# Altium schematic symbol library pporyzala-TI_Lighting.SchLib: 745 symbols (part 25 of 48)
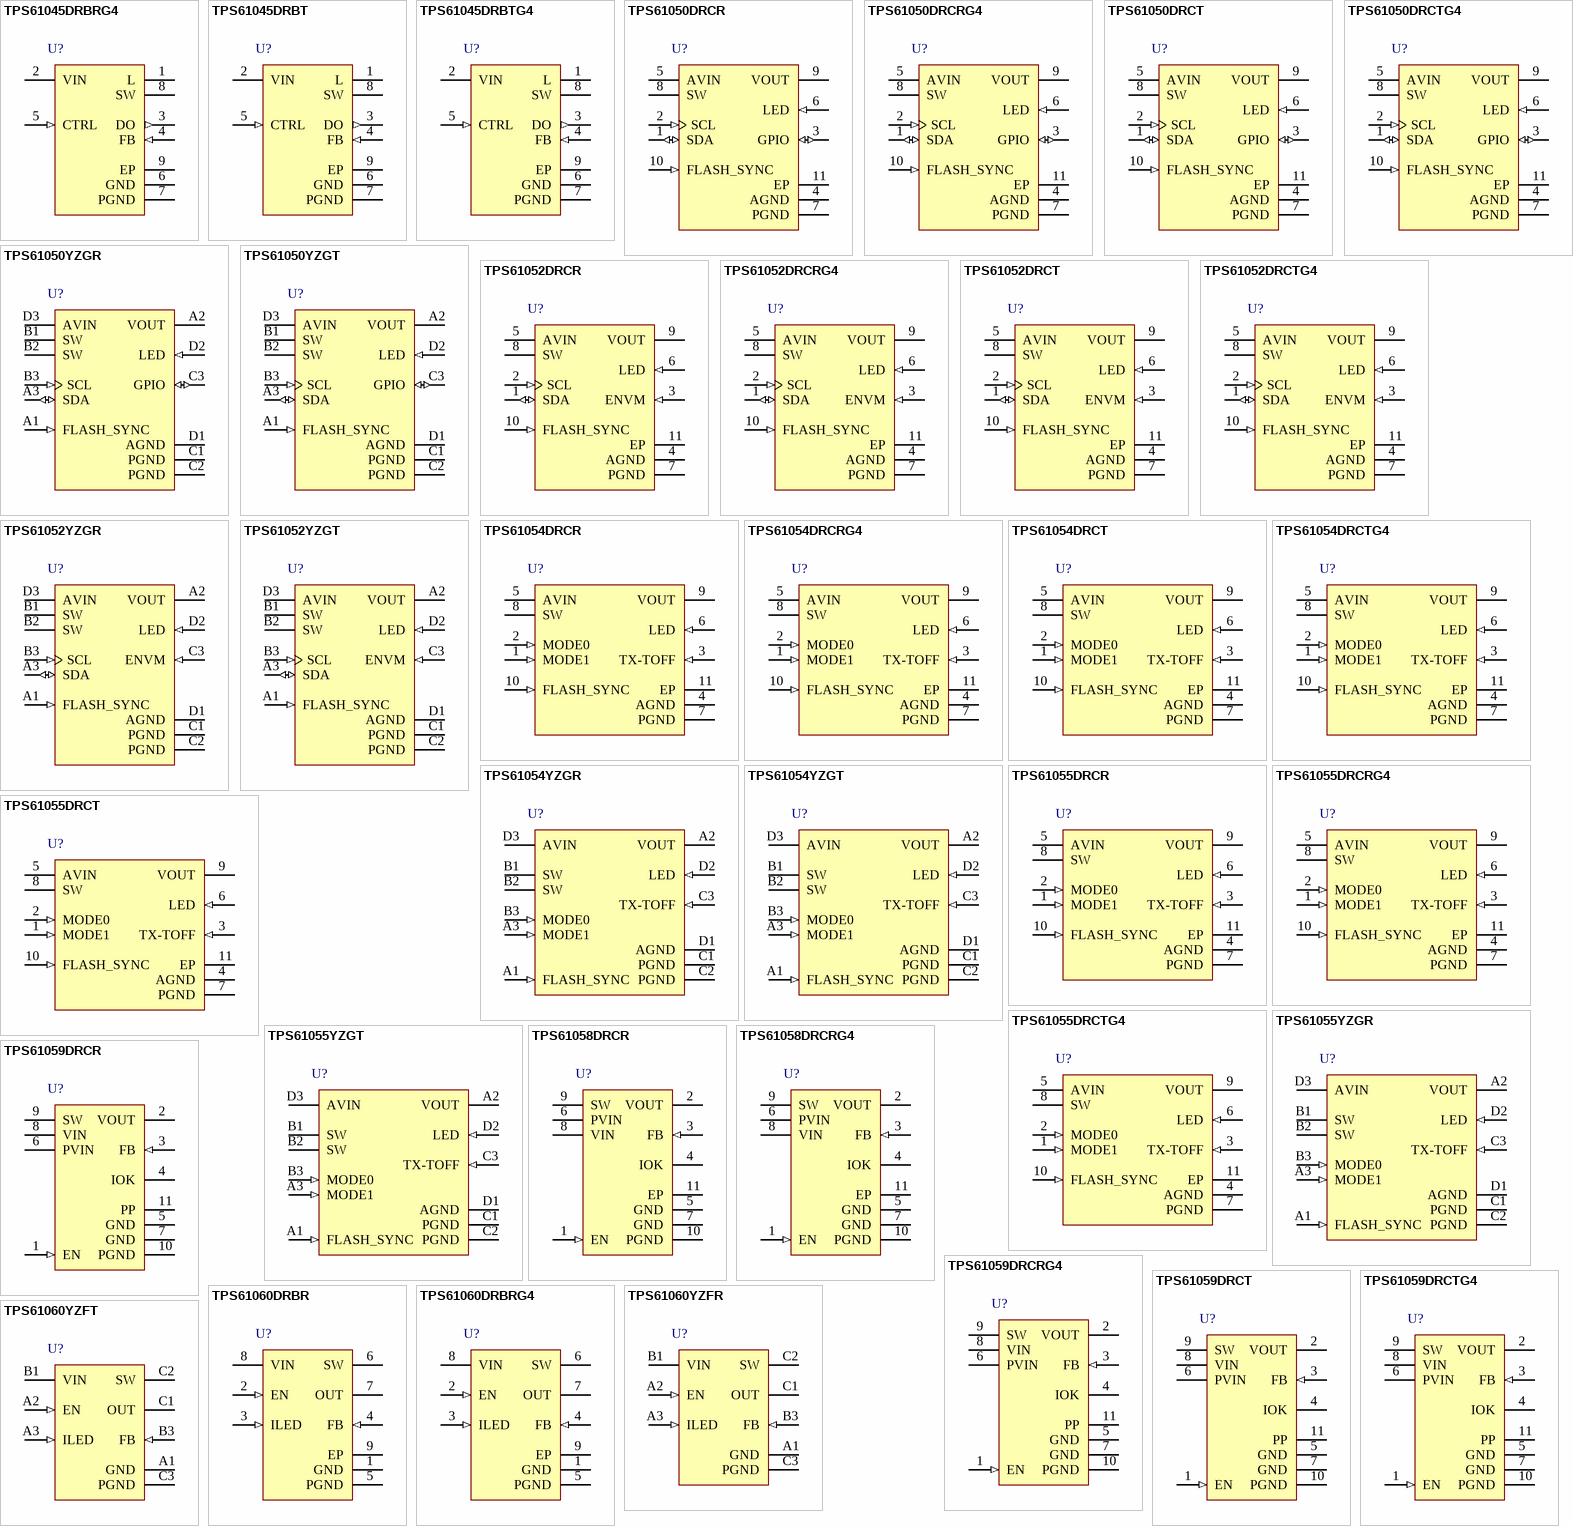
[diagram p55: symbols TPS61045DRBRG4 to TPS61060YZFT]

## TPS61055YZGT
designator U?
500 mA High Power White LED Driver with Standard Logic Interface, 2.5 to 6 V, -40 to 85 degC, 12-pin BGA (YZG12), Green (RoHS & no Sb/Br); Manufacturer: Texas Instruments; PartNumber: TPS61055YZGT; Dimming: TRUE; Iout(Max)(A): 1.2; Iq(Typ)(mA): 8.5; Rating: Catalog; Switching Frequency(Max)(kHz): 2000; Topology: Boost; Vin(Max)(V): 6; Vin(Min)(V): 2.5; DatasheetVersion: SLUS760A; PackageVersion: 4205059/D; PackageReference: YZG12; PackageDescription: 12-Ball, Silicon Grid Array, Body Size 1.96 x 1.46 mm, Pitch 0.5 mm; Supplier 1: Digi-Key; Supplier Part Number 1: TPS61055YZGT-ND; Supplier 2: Newark; Supplier Part Number 2: 03P5216; Supplier 3: Mouser; Supplier Part Number 3: 595-TPS61055YZGT; Eco-Plan: Green (RoHS & no Sb/Br); SubFamily: White LED Driver; Mounting Technology: Surface Mount; ComponentLink1Description: Manufacturer URL; ComponentLink1URL: http://www.ti.com/; ComponentLink2Description: Datasheet; ComponentLink2URL: http://www.ti.com/general/docs/lit/getliterature.tsp?genericPartNumber=TPS61055&fileType=pdf; ComponentLink3Description: Package Specification; ComponentLink3URL: http://www.ti.com/lit/ds/symlink/tps61054.pdf
footprint TI-YZG12-1960X1460DE (BGA, 12-Balls, Body 1.96x1.46mm, Pitch 0.5mm)
pins: A1 FLASH_SYNC (in) "Flash strobe pulse synchronization input. FLASH_SYNC = LOW (GND): The device is operating and regulating the LED current to the torch current level (TC). FLASH_SYNC = HIGH (VIN): The device is operating and regulating the (See Datasheet)", A2 VOUT (power) "Boost converter output.", A3 MODE1 (in) "Mode selection inputs. These pins must not be left floating and must be terminated. MODE0 = 0, MODE1 = 0: Device in shutdown mode MODE0 = 1, MODE1 = 0: Device in torch only mode MODE0 = 0, MODE1 = 1: Device in torch and (See Datasheet)", B1 SW (power) "Inductor connection. Drain of the internal power MOSFET. Connect to the switched side of the inductor. SW is high impedance during shutdown.", B2 SW (power) "Inductor connection. Drain of the internal power MOSFET. Connect to the switched side of the inductor. SW is high impedance during shutdown.", B3 MODE0 (in) "Mode selection inputs. These pins must not be left floating and must be terminated. MODE0 = 0, MODE1 = 0: Device in shutdown mode MODE0 = 1, MODE1 = 0: Device in torch only mode MODE0 = 0, MODE1 = 1: Device in torch and (See Datasheet)", C1 PGND (power) "Power ground. Connect to AGND underneath IC.", C2 PGND (power) "Power ground. Connect to AGND underneath IC.", C3 TX-TOFF (in) "RF PA synchronization input. Tx-TOFF = LOW : The device is operating normally. Tx-TOFF = HIGH : The device is forced into torch mode.", D1 AGND (power) "Analog ground.", D2 LED (in) "LED return input. This feedback pin regulates the LED current through the internal sense resistor by regulating the voltage across it. The regulation operates with typically 250 mV dropout voltage. Connect to the cathode of (See Datasheet)", D3 AVIN (power) "This is the input voltage pin of the device. Connect directly to the input bypass capacitor."

## TPS61058DRCR
designator U?
High Power Single Cell White LED Driver with 1.1 A Switch, 2.7 to 5.5 V, -40 to 85 degC, 10-pin SON (DRC10), Green (RoHS & no Sb/Br); Manufacturer: Texas Instruments; PartNumber: TPS61058DRCR; Iout(Max)(A): 0.5; Iq(Typ)(mA): 5.5; Rating: Catalog; Switching Frequency(Max)(kHz): 650; Synchronous Rectification: TRUE; Topology: Boost; Vin(Min)(V): 2.7; DatasheetVersion: SLVS572B; PackageVersion: 4204102-3/L; PackageReference: DRC10-2400X1650TP; PackageDescription: 10-Pin Plastic Small Outline, Body 3 x 3 mm, Pitch 0.5 mm; Supplier 1: Digi-Key; Supplier Part Number 1: 296-18728-2-ND; Supplier 2: Digi-Key; Supplier Part Number 2: 296-18728-1-ND; Supplier 3: Digi-Key; Supplier Part Number 3: 296-18728-6-ND; Supplier 4: Newark; Supplier Part Number 4: 66K4531; Supplier 5: Mouser; Supplier Part Number 5: 595-TPS61058DRCR; Eco-Plan: Green (RoHS & no Sb/Br); SubFamily: White LED Driver; Vin(Max)(V): 5.5; Mounting Technology: Surface Mount; ComponentLink1Description: Manufacturer URL; ComponentLink1URL: http://www.ti.com/; ComponentLink2Description: Datasheet; ComponentLink2URL: http://www.ti.com/general/docs/lit/getliterature.tsp?genericPartNumber=TPS61058&fileType=pdf; ComponentLink3Description: Package Specification; ComponentLink3URL: http://www.ti.com/litv/pdf/mpds117k
footprint TI-DRC10-2400X1650TP_V (SON, 10-Leads, Body 3x3mm, Pitch 0.5mm, Thermal Pad 3x1.65mm)
pins: 1 EN (in) "This is the enable pin of the device. Connect this pin to ground forces the device into shutdown mode. Pulling this pin above 1.4V enables the device. This pin has an internal pull-down resistor.", 2 VOUT (power) "This is the output of the dc-dc converter.", 3 FB (in) "This is the feedback pin of the device. The feedback pin measures the LED current through the sense resistor. The feedback voltage is set internally to 500mV.", 4 IOK (hiz) "This pin indicates that the dc-dc converter is ready for high current operation (open drain output).", 5 GND (power) "Control / logic ground.", 6 PVIN (power) "This is the input voltage pin of the device. Connect directly to the input bypass capacitor.", 7 GND (power) "Control / logic ground.", 8 VIN (power) "This pin needs to be tied to the input voltage pin of the device.", 9 SW (power) "This is the switching pin of the converter.", 10 PGND (power) "Power ground.", 11 EP (power) "Must be soldered to achieve appropriate power dissipation. Should be connected to PGND."

## TPS61058DRCRG4
designator U?
High Power Single Cell White LED Driver with 1.1 A Switch, 2.7 to 5.5 V, -40 to 85 degC, 10-pin SON (DRC10), Green (RoHS & no Sb/Br); Manufacturer: Texas Instruments; PartNumber: TPS61058DRCRG4; Iout(Max)(A): 0.5; Iq(Typ)(mA): 5.5; Rating: Catalog; Switching Frequency(Max)(kHz): 650; Synchronous Rectification: TRUE; Topology: Boost; Vin(Min)(V): 2.7; DatasheetVersion: SLVS572B; PackageVersion: 4204102-3/L; PackageReference: DRC10-2400X1650TP; PackageDescription: 10-Pin Plastic Small Outline, Body 3 x 3 mm, Pitch 0.5 mm; Supplier 1: Digi-Key; Supplier Part Number 1: TPS61058DRCRG4-ND; Supplier 2: Mouser; Supplier Part Number 2: 595-TPS61058DRCRG4; Eco-Plan: Green (RoHS & no Sb/Br); SubFamily: White LED Driver; Vin(Max)(V): 5.5; Mounting Technology: Surface Mount; ComponentLink1Description: Manufacturer URL; ComponentLink1URL: http://www.ti.com/; ComponentLink2Description: Datasheet; ComponentLink2URL: http://www.ti.com/general/docs/lit/getliterature.tsp?genericPartNumber=TPS61058&fileType=pdf; ComponentLink3Description: Package Specification; ComponentLink3URL: http://www.ti.com/litv/pdf/mpds117k
footprint TI-DRC10-2400X1650TP_V (SON, 10-Leads, Body 3x3mm, Pitch 0.5mm, Thermal Pad 3x1.65mm)
pins: 1 EN (in) "This is the enable pin of the device. Connect this pin to ground forces the device into shutdown mode. Pulling this pin above 1.4V enables the device. This pin has an internal pull-down resistor.", 2 VOUT (power) "This is the output of the dc-dc converter.", 3 FB (in) "This is the feedback pin of the device. The feedback pin measures the LED current through the sense resistor. The feedback voltage is set internally to 500mV.", 4 IOK (hiz) "This pin indicates that the dc-dc converter is ready for high current operation (open drain output).", 5 GND (power) "Control / logic ground.", 6 PVIN (power) "This is the input voltage pin of the device. Connect directly to the input bypass capacitor.", 7 GND (power) "Control / logic ground.", 8 VIN (power) "This pin needs to be tied to the input voltage pin of the device.", 9 SW (power) "This is the switching pin of the converter.", 10 PGND (power) "Power ground.", 11 EP (power) "Must be soldered to achieve appropriate power dissipation. Should be connected to PGND."

## TPS61059DRCR
designator U?
High Power Single Cell White LED Driver with 1.5 A Switch, 2.7 to 5.5 V, -40 to 85 degC, 10-pin SON (DRC10), Green (RoHS & no Sb/Br); Manufacturer: Texas Instruments; PartNumber: TPS61059DRCR; Iout(Max)(A): 0.8; Iq(Typ)(mA): 5.5; Rating: Catalog; Switching Frequency(Max)(kHz): 650; Synchronous Rectification: TRUE; Topology: Boost; Vin(Min)(V): 2.7; DatasheetVersion: SLVS572B; PackageVersion: 4204102-3/L; PackageReference: DRC10-2400X1650TP; PackageDescription: 10-Pin Plastic Small Outline, Body 3 x 3 mm, Pitch 0.5 mm; Supplier 1: Digi-Key; Supplier Part Number 1: TPS61059DRCR-ND; Supplier 2: Mouser; Supplier Part Number 2: 595-TPS61059DRCR; Eco-Plan: Green (RoHS & no Sb/Br); SubFamily: White LED Driver; Vin(Max)(V): 5.5; Mounting Technology: Surface Mount; ComponentLink1Description: Manufacturer URL; ComponentLink1URL: http://www.ti.com/; ComponentLink2Description: Datasheet; ComponentLink2URL: http://www.ti.com/general/docs/lit/getliterature.tsp?genericPartNumber=TPS61059&fileType=pdf; ComponentLink3Description: Package Specification; ComponentLink3URL: http://www.ti.com/litv/pdf/mpds117k
footprint TI-DRC10-2400X1650TP_V (SON, 10-Leads, Body 3x3mm, Pitch 0.5mm, Thermal Pad 3x1.65mm)
pins: 1 EN (in) "This is the enable pin of the device. Connect this pin to ground forces the device into shutdown mode. Pulling this pin above 1.4V enables the device. This pin has an internal pull-down resistor", 2 VOUT (power) "This is the output of the dc-dc converter.", 3 FB (in) "This is the feedback pin of the device. The feedback pin measures the LED current through the sense resistor. The feedback voltage is set internally to 500mV", 4 IOK (hiz) "This pin indicates that the dc-dc converter is ready for high current operation (open drain output).", 5 GND (power) "Control / logic ground.", 6 PVIN (power) "This is the input voltage pin of the device. Connect directly to the input bypass capacitor", 7 GND (power) "Control / logic ground.", 8 VIN (power) "This pin needs to be tied to the input voltage pin of the device.", 9 SW (power) "This is the switching pin of the converter.", 10 PGND (power) "Power ground.", 11 PP (power) "Must be soldered to achieve appropriate power dissipation. Should be connected to PGND."

## TPS61059DRCRG4
designator U?
High Power Single Cell White LED Driver with 1.5 A Switch, 2.7 to 5.5 V, -40 to 85 degC, 10-pin SON (DRC10), Green (RoHS & no Sb/Br); Manufacturer: Texas Instruments; PartNumber: TPS61059DRCRG4; Iout(Max)(A): 0.8; Iq(Typ)(mA): 5.5; Rating: Catalog; Switching Frequency(Max)(kHz): 650; Synchronous Rectification: TRUE; Topology: Boost; Vin(Min)(V): 2.7; DatasheetVersion: SLVS572B; PackageVersion: 4204102-3/L; PackageReference: DRC10-2400X1650TP; PackageDescription: 10-Pin Plastic Small Outline, Body 3 x 3 mm, Pitch 0.5 mm; Supplier 1: Digi-Key; Supplier Part Number 1: TPS61059DRCRG4-ND; Supplier 2: Mouser; Supplier Part Number 2: 595-TPS61059DRCRG4; Eco-Plan: Green (RoHS & no Sb/Br); SubFamily: White LED Driver; Vin(Max)(V): 5.5; Mounting Technology: Surface Mount; ComponentLink1Description: Manufacturer URL; ComponentLink1URL: http://www.ti.com/; ComponentLink2Description: Datasheet; ComponentLink2URL: http://www.ti.com/general/docs/lit/getliterature.tsp?genericPartNumber=TPS61059&fileType=pdf; ComponentLink3Description: Package Specification; ComponentLink3URL: http://www.ti.com/litv/pdf/mpds117k
footprint TI-DRC10-2400X1650TP_V (SON, 10-Leads, Body 3x3mm, Pitch 0.5mm, Thermal Pad 3x1.65mm)
pins: 1 EN (in) "This is the enable pin of the device. Connect this pin to ground forces the device into shutdown mode. Pulling this pin above 1.4V enables the device. This pin has an internal pull-down resistor", 2 VOUT (power) "This is the output of the dc-dc converter.", 3 FB (in) "This is the feedback pin of the device. The feedback pin measures the LED current through the sense resistor. The feedback voltage is set internally to 500mV", 4 IOK (hiz) "This pin indicates that the dc-dc converter is ready for high current operation (open drain output).", 5 GND (power) "Control / logic ground.", 6 PVIN (power) "This is the input voltage pin of the device. Connect directly to the input bypass capacitor", 7 GND (power) "Control / logic ground.", 8 VIN (power) "This pin needs to be tied to the input voltage pin of the device.", 9 SW (power) "This is the switching pin of the converter.", 10 PGND (power) "Power ground.", 11 PP (power) "Must be soldered to achieve appropriate power dissipation. Should be connected to PGND."

## TPS61059DRCT
designator U?
High Power Single Cell White LED Driver with 1.5 A Switch, 2.7 to 5.5 V, -40 to 85 degC, 10-pin SON (DRC10), Green (RoHS & no Sb/Br); Manufacturer: Texas Instruments; PartNumber: TPS61059DRCT; Iout(Max)(A): 0.8; Iq(Typ)(mA): 5.5; Rating: Catalog; Switching Frequency(Max)(kHz): 650; Synchronous Rectification: TRUE; Topology: Boost; Vin(Min)(V): 2.7; DatasheetVersion: SLVS572B; PackageVersion: 4204102-3/L; PackageReference: DRC10-2400X1650TP; PackageDescription: 10-Pin Plastic Small Outline, Body 3 x 3 mm, Pitch 0.5 mm; Supplier 1: Digi-Key; Supplier Part Number 1: 296-19426-2-ND; Supplier 2: Digi-Key; Supplier Part Number 2: 296-19426-1-ND; Supplier 3: Digi-Key; Supplier Part Number 3: 296-19426-6-ND; Supplier 4: Newark; Supplier Part Number 4: 99R8634; Supplier 5: Newark; Supplier Part Number 5: 72K0974; Supplier 6: Mouser; Supplier Part Number 6: 595-TPS61059DRCT; Eco-Plan: Green (RoHS & no Sb/Br); SubFamily: White LED Driver; Vin(Max)(V): 5.5; Mounting Technology: Surface Mount; ComponentLink1Description: Manufacturer URL; ComponentLink1URL: http://www.ti.com/; ComponentLink2Description: Datasheet; ComponentLink2URL: http://www.ti.com/general/docs/lit/getliterature.tsp?genericPartNumber=TPS61059&fileType=pdf; ComponentLink3Description: Package Specification; ComponentLink3URL: http://www.ti.com/litv/pdf/mpds117k
footprint TI-DRC10-2400X1650TP_V (SON, 10-Leads, Body 3x3mm, Pitch 0.5mm, Thermal Pad 3x1.65mm)
pins: 1 EN (in) "This is the enable pin of the device. Connect this pin to ground forces the device into shutdown mode. Pulling this pin above 1.4V enables the device. This pin has an internal pull-down resistor", 2 VOUT (power) "This is the output of the dc-dc converter.", 3 FB (in) "This is the feedback pin of the device. The feedback pin measures the LED current through the sense resistor. The feedback voltage is set internally to 500mV", 4 IOK (hiz) "This pin indicates that the dc-dc converter is ready for high current operation (open drain output).", 5 GND (power) "Control / logic ground.", 6 PVIN (power) "This is the input voltage pin of the device. Connect directly to the input bypass capacitor", 7 GND (power) "Control / logic ground.", 8 VIN (power) "This pin needs to be tied to the input voltage pin of the device.", 9 SW (power) "This is the switching pin of the converter.", 10 PGND (power) "Power ground.", 11 PP (power) "Must be soldered to achieve appropriate power dissipation. Should be connected to PGND."

## TPS61059DRCTG4
designator U?
High Power Single Cell White LED Driver with 1.5 A Switch, 2.7 to 5.5 V, -40 to 85 degC, 10-pin SON (DRC10), Green (RoHS & no Sb/Br); Manufacturer: Texas Instruments; PartNumber: TPS61059DRCTG4; Iout(Max)(A): 0.8; Iq(Typ)(mA): 5.5; Rating: Catalog; Switching Frequency(Max)(kHz): 650; Synchronous Rectification: TRUE; Topology: Boost; Vin(Min)(V): 2.7; DatasheetVersion: SLVS572B; PackageVersion: 4204102-3/L; PackageReference: DRC10-2400X1650TP; PackageDescription: 10-Pin Plastic Small Outline, Body 3 x 3 mm, Pitch 0.5 mm; Supplier 1: Digi-Key; Supplier Part Number 1: TPS61059DRCTG4-ND; Supplier 2: Farnell; Supplier Part Number 2: 1226312; Supplier 3: Newark; Supplier Part Number 3: 73K9607; Supplier 4: Mouser; Supplier Part Number 4: 595-TPS61059DRCTG4; Eco-Plan: Green (RoHS & no Sb/Br); SubFamily: White LED Driver; Vin(Max)(V): 5.5; Mounting Technology: Surface Mount; ComponentLink1Description: Manufacturer URL; ComponentLink1URL: http://www.ti.com/; ComponentLink2Description: Datasheet; ComponentLink2URL: http://www.ti.com/general/docs/lit/getliterature.tsp?genericPartNumber=TPS61059&fileType=pdf; ComponentLink3Description: Package Specification; ComponentLink3URL: http://www.ti.com/litv/pdf/mpds117k
footprint TI-DRC10-2400X1650TP_V (SON, 10-Leads, Body 3x3mm, Pitch 0.5mm, Thermal Pad 3x1.65mm)
pins: 1 EN (in) "This is the enable pin of the device. Connect this pin to ground forces the device into shutdown mode. Pulling this pin above 1.4V enables the device. This pin has an internal pull-down resistor", 2 VOUT (power) "This is the output of the dc-dc converter.", 3 FB (in) "This is the feedback pin of the device. The feedback pin measures the LED current through the sense resistor. The feedback voltage is set internally to 500mV", 4 IOK (hiz) "This pin indicates that the dc-dc converter is ready for high current operation (open drain output).", 5 GND (power) "Control / logic ground.", 6 PVIN (power) "This is the input voltage pin of the device. Connect directly to the input bypass capacitor", 7 GND (power) "Control / logic ground.", 8 VIN (power) "This pin needs to be tied to the input voltage pin of the device.", 9 SW (power) "This is the switching pin of the converter.", 10 PGND (power) "Power ground.", 11 PP (power) "Must be soldered to achieve appropriate power dissipation. Should be connected to PGND."

## TPS61060DRBR
designator U?
15 V, 400 mA Switch, 1 MHz Boost Converter with Brightness Control for White LED Power Supplies, 2.7 to 6 V, -40 to 85 degC, 8-pin SON (DRB8), Green (RoHS & no Sb/Br); Manufacturer: Texas Instruments; PartNumber: TPS61060DRBR; Dimming: TRUE; Iout(Max)(A): 0.06; Iq(Typ)(mA): 1; Rating: Catalog; SubFamily: White LED Driver; Switching Frequency(Max)(kHz): 1200; Vin(Max)(V): 6; Vin(Min)(V): 2.7; DatasheetVersion: SLVS538A; PackageVersion: 4203482-2/K; PackageReference: DRB8-1750X1500TP; PackageDescription: 8-Pin Plastic Small Outline, Body 3 x 3 mm, Pitch 0.65 mm; Supplier 1: Digi-Key; Supplier Part Number 1: 296-17500-2-ND; Supplier 2: Digi-Key; Supplier Part Number 2: 296-17500-1-ND; Supplier 3: Digi-Key; Supplier Part Number 3: 296-17500-6-ND; Supplier 4: Newark; Supplier Part Number 4: 65J6906; Supplier 5: Mouser; Supplier Part Number 5: 595-TPS61060DRBR; Eco-Plan: Green (RoHS & no Sb/Br); Topology: Boost; Mounting Technology: Surface Mount; ComponentLink1Description: Manufacturer URL; ComponentLink1URL: http://www.ti.com/; ComponentLink2Description: Datasheet; ComponentLink2URL: http://www.ti.com/general/docs/lit/getliterature.tsp?genericPartNumber=TPS61060&fileType=pdf; ComponentLink3Description: Package Specification; ComponentLink3URL: http://www.ti.com/litv/pdf/mpds118h
footprint TI-DRB8-1750X1500TP_V (SON, 8-Leads, Body 3x3mm, Pitch 0.65mm, Thermal Pad 1.50 x 3.8mm)
pins: 1 GND (power) "Analog ground", 2 EN (in) "Enable pin. This pin needs to be pulled high to enable the device. To allow brightness control of the LEDs, a PWM signal up to 1 kHz can be applied. This pin has an internal pulldown resistor.", 3 ILED (in) "Digital brightness control input. When this pin is grounded, the digital brightness control is disabled. When this pin is connected to high, then the feedback voltage is reduced to typically 250 mV and the digital brightness (See Datasheet)", 4 FB (in) "This is the feedback pin of the device. The feedback pin regulates the LED current through the sense resistor by regulating the voltage across Rs. The feedback voltage is set by the ILED pin.ILED=GND sets the feedback (See Datasheet)", 5 PGND (power) "Power ground", 6 SW (power) "Switch pin of the device", 7 OUT (hiz) "Output of the device", 8 VIN (power) "Input supply pin of the device", 9 EP (power) "The PowerPAD (exposed thermal diepad) is only available on the DRB package. The PowerPAD needs to be connected and soldered to analog ground (GND)."

## TPS61060DRBRG4
designator U?
15 V, 400 mA Switch, 1 MHz Boost Converter with Brightness Control for White LED Power Supplies, 2.7 to 6 V, -40 to 85 degC, 8-pin SON (DRB8), Green (RoHS & no Sb/Br); Manufacturer: Texas Instruments; PartNumber: TPS61060DRBRG4; Dimming: TRUE; Iout(Max)(A): 0.06; Iq(Typ)(mA): 1; Rating: Catalog; SubFamily: White LED Driver; Switching Frequency(Max)(kHz): 1200; Vin(Max)(V): 6; Vin(Min)(V): 2.7; DatasheetVersion: SLVS538A; PackageVersion: 4203482-2/K; PackageReference: DRB8-1750X1500TP; PackageDescription: 8-Pin Plastic Small Outline, Body 3 x 3 mm, Pitch 0.65 mm; Supplier 1: Digi-Key; Supplier Part Number 1: TPS61060DRBRG4-ND; Supplier 2: Newark; Supplier Part Number 2: 24K6024; Supplier 3: Mouser; Supplier Part Number 3: 595-TPS61060DRBRG4; Eco-Plan: Green (RoHS & no Sb/Br); Topology: Boost; Mounting Technology: Surface Mount; ComponentLink1Description: Manufacturer URL; ComponentLink1URL: http://www.ti.com/; ComponentLink2Description: Datasheet; ComponentLink2URL: http://www.ti.com/general/docs/lit/getliterature.tsp?genericPartNumber=TPS61060&fileType=pdf; ComponentLink3Description: Package Specification; ComponentLink3URL: http://www.ti.com/litv/pdf/mpds118h
footprint TI-DRB8-1750X1500TP_V (SON, 8-Leads, Body 3x3mm, Pitch 0.65mm, Thermal Pad 1.50 x 3.8mm)
pins: 1 GND (power) "Analog ground", 2 EN (in) "Enable pin. This pin needs to be pulled high to enable the device. To allow brightness control of the LEDs, a PWM signal up to 1 kHz can be applied. This pin has an internal pulldown resistor.", 3 ILED (in) "Digital brightness control input. When this pin is grounded, the digital brightness control is disabled. When this pin is connected to high, then the feedback voltage is reduced to typically 250 mV and the digital brightness (See Datasheet)", 4 FB (in) "This is the feedback pin of the device. The feedback pin regulates the LED current through the sense resistor by regulating the voltage across Rs. The feedback voltage is set by the ILED pin.ILED=GND sets the feedback (See Datasheet)", 5 PGND (power) "Power ground", 6 SW (power) "Switch pin of the device", 7 OUT (hiz) "Output of the device", 8 VIN (power) "Input supply pin of the device", 9 EP (power) "The PowerPAD (exposed thermal diepad) is only available on the DRB package. The PowerPAD needs to be connected and soldered to analog ground (GND)."

## TPS61060YZFR
designator U?
15 V, 400 mA Switch, 1 MHz Boost Converter with Brightness Control for White LED Power Supplies, 2.7 to 6 V, -40 to 85 degC, 8-pin BGA (YZF8), Green (RoHS & no Sb/Br); Manufacturer: Texas Instruments; PartNumber: TPS61060YZFR; Dimming: TRUE; Iout(Max)(A): 0.06; Iq(Typ)(mA): 1; Rating: Catalog; SubFamily: White LED Driver; Switching Frequency(Max)(kHz): 1200; Vin(Max)(V): 6; Vin(Min)(V): 2.7; DatasheetVersion: SLVS538A; PackageVersion: 4205058-3/M; PackageReference: YZF8; PackageDescription: 8-Ball, Silicon Grid Array, Body Size 1.46 x 1.46 mm, Pitch 0.5 mm; Supplier 1: Digi-Key; Supplier Part Number 1: 296-19296-2-ND; Supplier 2: Digi-Key; Supplier Part Number 2: 296-19296-1-ND; Supplier 3: Newark; Supplier Part Number 3: 65J6907; Supplier 4: Mouser; Supplier Part Number 4: 595-TPS61060YZFR; Eco-Plan: Green (RoHS & no Sb/Br); Topology: Boost; Mounting Technology: Surface Mount; ComponentLink1Description: Manufacturer URL; ComponentLink1URL: http://www.ti.com/; ComponentLink2Description: Datasheet; ComponentLink2URL: http://www.ti.com/general/docs/lit/getliterature.tsp?genericPartNumber=TPS61060&fileType=pdf; ComponentLink3Description: Package Specification; ComponentLink3URL: http://www.ti.com/lit/ds/symlink/tps61060.pdf
footprint TI-YZF8-1460X1460DE (BGA, 8-Balls, Body 1.46x1.46mm, Pitch 0.5mm)
pins: A1 GND (power) "Analog ground", A2 EN (in) "Enable pin. This pin needs to be pulled high to enable the device. To allow brightness control of the LEDs, a PWM signal up to 1 kHz can be applied. This pin has an internal pulldown resistor.", A3 ILED (in) "Digital brightness control input. When this pin is grounded, the digital brightness control is disabled. When this pin is connected to high, then the feedback voltage is reduced to typically 250 mV and the digital brightness (See Datasheet)", B1 VIN (power) "Input supply pin of the device", B3 FB (in) "This is the feedback pin of the device. The feedback pin regulates the LED current through the sense resistor by regulating the voltage across Rs. The feedback voltage is set by the ILED pin. ILED=GND sets the feedback (See Datasheet)", C1 OUT (hiz) "Output of the device", C2 SW (power) "Switch pin of the device", C3 PGND (power) "Power ground"

## TPS61060YZFT
designator U?
15 V, 400 mA Switch, 1 MHz Boost Converter with Brightness Control for White LED Power Supplies, 2.7 to 6 V, -40 to 85 degC, 8-pin BGA (YZF8), Green (RoHS & no Sb/Br); Manufacturer: Texas Instruments; PartNumber: TPS61060YZFT; Dimming: TRUE; Iout(Max)(A): 0.06; Iq(Typ)(mA): 1; Rating: Catalog; SubFamily: White LED Driver; Switching Frequency(Max)(kHz): 1200; Vin(Max)(V): 6; Vin(Min)(V): 2.7; DatasheetVersion: SLVS538A; PackageVersion: 4205058-3/M; PackageReference: YZF8; PackageDescription: 8-Ball, Silicon Grid Array, Body Size 1.46 x 1.46 mm, Pitch 0.5 mm; Supplier 1: Digi-Key; Supplier Part Number 1: 296-17745-2-ND; Supplier 2: Digi-Key; Supplier Part Number 2: 296-17745-1-ND; Supplier 3: Farnell; Supplier Part Number 3: 1755587; Supplier 4: Farnell; Supplier Part Number 4: 1755587RL; Supplier 5: Newark; Supplier Part Number 5: 65J6908; Supplier 6: Mouser; Supplier Part Number 6: 595-TPS61060YZFT; Eco-Plan: Green (RoHS & no Sb/Br); Topology: Boost; Mounting Technology: Surface Mount; ComponentLink1Description: Manufacturer URL; ComponentLink1URL: http://www.ti.com/; ComponentLink2Description: Datasheet; ComponentLink2URL: http://www.ti.com/general/docs/lit/getliterature.tsp?genericPartNumber=TPS61060&fileType=pdf; ComponentLink3Description: Package Specification; ComponentLink3URL: http://www.ti.com/lit/ds/symlink/tps61060.pdf
footprint TI-YZF8-1460X1460DE (BGA, 8-Balls, Body 1.46x1.46mm, Pitch 0.5mm)
pins: A1 GND (power) "Analog ground", A2 EN (in) "Enable pin. This pin needs to be pulled high to enable the device. To allow brightness control of the LEDs, a PWM signal up to 1 kHz can be applied. This pin has an internal pulldown resistor.", A3 ILED (in) "Digital brightness control input. When this pin is grounded, the digital brightness control is disabled. When this pin is connected to high, then the feedback voltage is reduced to typically 250 mV and the digital brightness (See Datasheet)", B1 VIN (power) "Input supply pin of the device", B3 FB (in) "This is the feedback pin of the device. The feedback pin regulates the LED current through the sense resistor by regulating the voltage across Rs. The feedback voltage is set by the ILED pin. ILED=GND sets the feedback (See Datasheet)", C1 OUT (hiz) "Output of the device", C2 SW (power) "Switch pin of the device", C3 PGND (power) "Power ground"

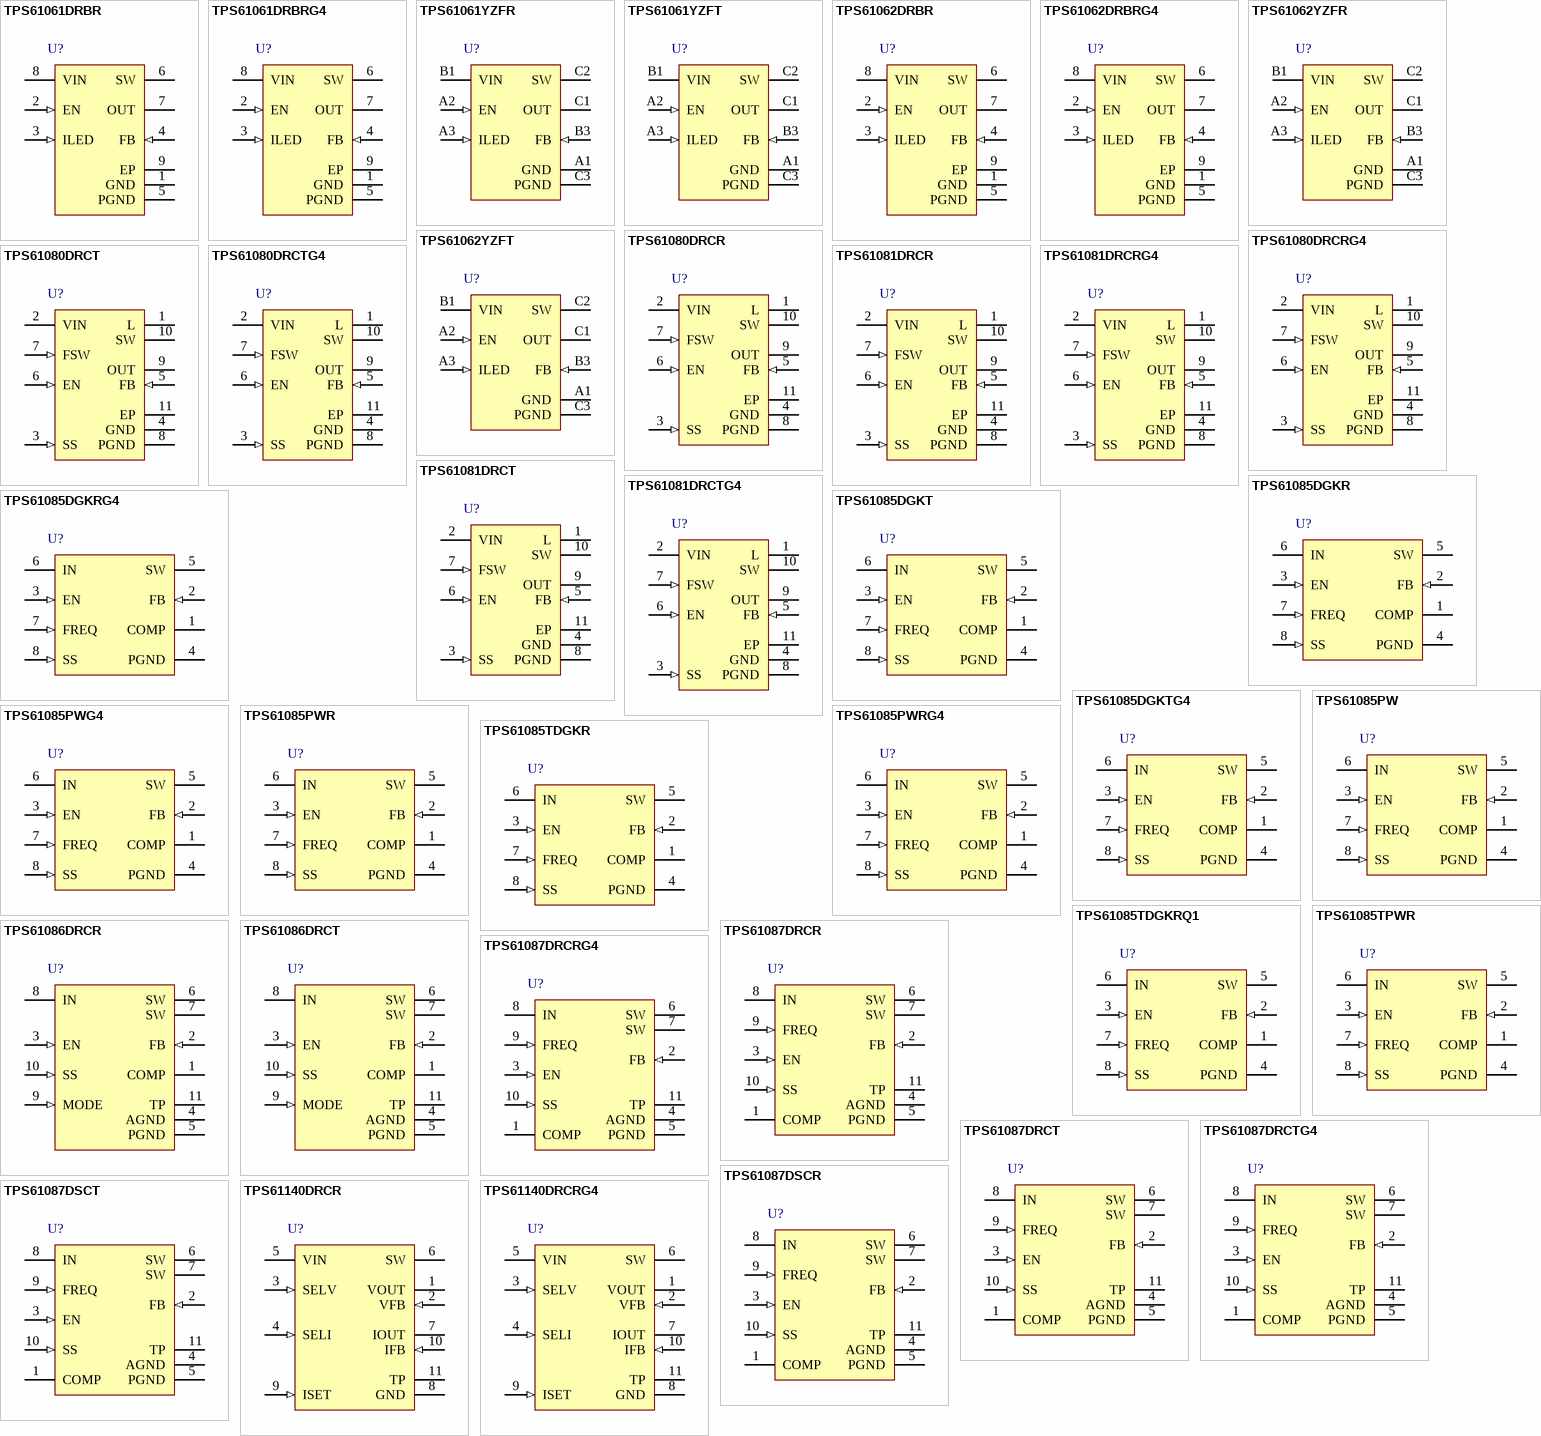
[diagram p17: symbols TPS61061DRBR to TPS61140DRCRG4]

## TPS61061DRBR
designator U?
19 V, 400 mA Switch, 1 MHz Boost Converter with Brightness Control for White LED Power Supplies, 2.7 to 6 V, -40 to 85 degC, 8-pin SON (DRB8), Green (RoHS & no Sb/Br); Manufacturer: Texas Instruments; PartNumber: TPS61061DRBR; Dimming: TRUE; Iout(Max)(A): 0.06; Iq(Typ)(mA): 1; Rating: Catalog; SubFamily: White LED Driver; Switching Frequency(Max)(kHz): 1200; Vin(Max)(V): 6; Vin(Min)(V): 2.7; DatasheetVersion: SLVS538A; PackageVersion: 4203482-2/K; PackageReference: DRB8-1750X1500TP; PackageDescription: 8-Pin Plastic Small Outline, Body 3 x 3 mm, Pitch 0.65 mm; Supplier 1: Digi-Key; Supplier Part Number 1: 296-17499-2-ND; Supplier 2: Digi-Key; Supplier Part Number 2: 296-17499-1-ND; Supplier 3: Digi-Key; Supplier Part Number 3: 296-17499-6-ND; Supplier 4: Newark; Supplier Part Number 4: 65J6909; Supplier 5: Mouser; Supplier Part Number 5: 595-TPS61061DRBR; Eco-Plan: Green (RoHS & no Sb/Br); Topology: Boost; Mounting Technology: Surface Mount; ComponentLink1Description: Manufacturer URL; ComponentLink1URL: http://www.ti.com/; ComponentLink2Description: Datasheet; ComponentLink2URL: http://www.ti.com/general/docs/lit/getliterature.tsp?genericPartNumber=TPS61060&fileType=pdf; ComponentLink3Description: Package Specification; ComponentLink3URL: http://www.ti.com/litv/pdf/mpds118h
footprint TI-DRB8-1750X1500TP_V (SON, 8-Leads, Body 3x3mm, Pitch 0.65mm, Thermal Pad 1.50 x 3.8mm)
pins: 1 GND (power) "Analog ground", 2 EN (in) "Enable pin. This pin needs to be pulled high to enable the device. To allow brightness control of the LEDs, a PWM signal up to 1 kHz can be applied. This pin has an internal pulldown resistor.", 3 ILED (in) "Digital brightness control input. When this pin is grounded, the digital brightness control is disabled. When this pin is connected to high, then the feedback voltage is reduced to typically 250 mV and the digital brightness (See Datasheet)", 4 FB (in) "This is the feedback pin of the device. The feedback pin regulates the LED current through the sense resistor by regulating the voltage across Rs. The feedback voltage is set by the ILED pin.ILED=GND sets the feedback (See Datasheet)", 5 PGND (power) "Power ground", 6 SW (power) "Switch pin of the device", 7 OUT (hiz) "Output of the device", 8 VIN (power) "Input supply pin of the device", 9 EP (power) "The PowerPAD (exposed thermal diepad) is only available on the DRB package. The PowerPAD needs to be connected and soldered to analog ground (GND)."

## TPS61061DRBRG4
designator U?
19 V, 400 mA Switch, 1 MHz Boost Converter with Brightness Control for White LED Power Supplies, 2.7 to 6 V, -40 to 85 degC, 8-pin SON (DRB8), Green (RoHS & no Sb/Br); Manufacturer: Texas Instruments; PartNumber: TPS61061DRBRG4; Dimming: TRUE; Iout(Max)(A): 0.06; Iq(Typ)(mA): 1; Rating: Catalog; SubFamily: White LED Driver; Switching Frequency(Max)(kHz): 1200; Vin(Max)(V): 6; Vin(Min)(V): 2.7; DatasheetVersion: SLVS538A; PackageVersion: 4203482-2/K; PackageReference: DRB8-1750X1500TP; PackageDescription: 8-Pin Plastic Small Outline, Body 3 x 3 mm, Pitch 0.65 mm; Supplier 1: Digi-Key; Supplier Part Number 1: TPS61061DRBRG4-ND; Supplier 2: Mouser; Supplier Part Number 2: 595-TPS61061DRBRG4; Eco-Plan: Green (RoHS & no Sb/Br); Topology: Boost; Mounting Technology: Surface Mount; ComponentLink1Description: Manufacturer URL; ComponentLink1URL: http://www.ti.com/; ComponentLink2Description: Datasheet; ComponentLink2URL: http://www.ti.com/general/docs/lit/getliterature.tsp?genericPartNumber=TPS61061&fileType=pdf; ComponentLink3Description: Package Specification; ComponentLink3URL: http://www.ti.com/litv/pdf/mpds118h
footprint TI-DRB8-1750X1500TP_V (SON, 8-Leads, Body 3x3mm, Pitch 0.65mm, Thermal Pad 1.50 x 3.8mm)
pins: 1 GND (power) "Analog ground", 2 EN (in) "Enable pin. This pin needs to be pulled high to enable the device. To allow brightness control of the LEDs, a PWM signal up to 1 kHz can be applied. This pin has an internal pulldown resistor.", 3 ILED (in) "Digital brightness control input. When this pin is grounded, the digital brightness control is disabled. When this pin is connected to high, then the feedback voltage is reduced to typically 250 mV and the digital brightness (See Datasheet)", 4 FB (in) "This is the feedback pin of the device. The feedback pin regulates the LED current through the sense resistor by regulating the voltage across Rs. The feedback voltage is set by the ILED pin.ILED=GND sets the feedback (See Datasheet)", 5 PGND (power) "Power ground", 6 SW (power) "Switch pin of the device", 7 OUT (hiz) "Output of the device", 8 VIN (power) "Input supply pin of the device", 9 EP (power) "The PowerPAD (exposed thermal diepad) is only available on the DRB package. The PowerPAD needs to be connected and soldered to analog ground (GND)."

## TPS61061YZFR
designator U?
19 V, 400 mA Switch, 1 MHz Boost Converter with Brightness Control for White LED Power Supplies, 2.7 to 6 V, -40 to 85 degC, 8-pin BGA (YZF8), Green (RoHS & no Sb/Br); Manufacturer: Texas Instruments; PartNumber: TPS61061YZFR; Dimming: TRUE; Iout(Max)(A): 0.06; Iq(Typ)(mA): 1; Rating: Catalog; SubFamily: White LED Driver; Switching Frequency(Max)(kHz): 1200; Vin(Max)(V): 6; Vin(Min)(V): 2.7; DatasheetVersion: SLVS538A; PackageVersion: 4205058-3/M; PackageReference: YZF8; PackageDescription: 8-Ball, Silicon Grid Array, Body Size 1.46 x 1.46 mm, Pitch 0.5 mm; Supplier 1: Digi-Key; Supplier Part Number 1: TPS61061YZFR-ND; Supplier 2: Newark; Supplier Part Number 2: 65J6911; Supplier 3: Mouser; Supplier Part Number 3: 595-TPS61061YZFR; Eco-Plan: Green (RoHS & no Sb/Br); Topology: Boost; Mounting Technology: Surface Mount; ComponentLink1Description: Manufacturer URL; ComponentLink1URL: http://www.ti.com/; ComponentLink2Description: Datasheet; ComponentLink2URL: http://www.ti.com/general/docs/lit/getliterature.tsp?genericPartNumber=TPS61061&fileType=pdf; ComponentLink3Description: Package Specification; ComponentLink3URL: http://www.ti.com/lit/ds/symlink/tps61060.pdf
footprint TI-YZF8-1460X1460DE (BGA, 8-Balls, Body 1.46x1.46mm, Pitch 0.5mm)
pins: A1 GND (power) "Analog ground", A2 EN (in) "Enable pin. This pin needs to be pulled high to enable the device. To allow brightness control of the LEDs, a PWM signal up to 1 kHz can be applied. This pin has an internal pulldown resistor.", A3 ILED (in) "Digital brightness control input. When this pin is grounded, the digital brightness control is disabled. When this pin is connected to high, then the feedback voltage is reduced to typically 250 mV and the digital brightness (See Datasheet)", B1 VIN (power) "Input supply pin of the device", B3 FB (in) "This is the feedback pin of the device. The feedback pin regulates the LED current through the sense resistor by regulating the voltage across Rs. The feedback voltage is set by the ILED pin. ILED=GND sets the feedback (See Datasheet)", C1 OUT (hiz) "Output of the device", C2 SW (power) "Switch pin of the device", C3 PGND (power) "Power ground"

## TPS61061YZFT
designator U?
19 V, 400 mA Switch, 1 MHz Boost Converter with Brightness Control for White LED Power Supplies, 2.7 to 6 V, -40 to 85 degC, 8-pin BGA (YZF8), Green (RoHS & no Sb/Br); Manufacturer: Texas Instruments; PartNumber: TPS61061YZFT; Dimming: TRUE; Iout(Max)(A): 0.06; Iq(Typ)(mA): 1; Rating: Catalog; SubFamily: White LED Driver; Switching Frequency(Max)(kHz): 1200; Vin(Max)(V): 6; Vin(Min)(V): 2.7; DatasheetVersion: SLVS538A; PackageVersion: 4205058-3/M; PackageReference: YZF8; PackageDescription: 8-Ball, Silicon Grid Array, Body Size 1.46 x 1.46 mm, Pitch 0.5 mm; Supplier 1: Digi-Key; Supplier Part Number 1: 296-17746-2-ND; Supplier 2: Digi-Key; Supplier Part Number 2: 296-17746-1-ND; Supplier 3: Mouser; Supplier Part Number 3: 595-TPS61061YZFT; Eco-Plan: Green (RoHS & no Sb/Br); Topology: Boost; Mounting Technology: Surface Mount; ComponentLink1Description: Manufacturer URL; ComponentLink1URL: http://www.ti.com/; ComponentLink2Description: Datasheet; ComponentLink2URL: http://www.ti.com/general/docs/lit/getliterature.tsp?genericPartNumber=TPS61061&fileType=pdf; ComponentLink3Description: Package Specification; ComponentLink3URL: http://www.ti.com/lit/ds/symlink/tps61060.pdf
footprint TI-YZF8-1460X1460DE (BGA, 8-Balls, Body 1.46x1.46mm, Pitch 0.5mm)
pins: A1 GND (power) "Analog ground", A2 EN (in) "Enable pin. This pin needs to be pulled high to enable the device. To allow brightness control of the LEDs, a PWM signal up to 1 kHz can be applied. This pin has an internal pulldown resistor.", A3 ILED (in) "Digital brightness control input. When this pin is grounded, the digital brightness control is disabled. When this pin is connected to high, then the feedback voltage is reduced to typically 250 mV and the digital brightness (See Datasheet)", B1 VIN (power) "Input supply pin of the device", B3 FB (in) "This is the feedback pin of the device. The feedback pin regulates the LED current through the sense resistor by regulating the voltage across Rs. The feedback voltage is set by the ILED pin. ILED=GND sets the feedback (See Datasheet)", C1 OUT (hiz) "Output of the device", C2 SW (power) "Switch pin of the device", C3 PGND (power) "Power ground"

## TPS61062DRBR
designator U?
24 V, 400 mA Switch, 1 MHz Boost Converter with Brightness Control for White LED Power Supplies, 2.7 to 6 V, -40 to 85 degC, 8-pin SON (DRB8), Green (RoHS & no Sb/Br); Manufacturer: Texas Instruments; PartNumber: TPS61062DRBR; Dimming: TRUE; Iout(Max)(A): 0.06; Iq(Typ)(mA): 1; Rating: Catalog; SubFamily: White LED Driver; Switching Frequency(Max)(kHz): 1200; Vin(Max)(V): 6; Vin(Min)(V): 2.7; DatasheetVersion: SLVS538A; PackageVersion: 4203482-2/K; PackageReference: DRB8-1750X1500TP; PackageDescription: 8-Pin Plastic Small Outline, Body 3 x 3 mm, Pitch 0.65 mm; Supplier 1: Digi-Key; Supplier Part Number 1: 296-17502-2-ND; Supplier 2: Digi-Key; Supplier Part Number 2: 296-17502-1-ND; Supplier 3: Digi-Key; Supplier Part Number 3: 296-17502-6-ND; Supplier 4: Mouser; Supplier Part Number 4: 595-TPS61062DRBR; Eco-Plan: Green (RoHS & no Sb/Br); Topology: Boost; Mounting Technology: Surface Mount; ComponentLink1Description: Manufacturer URL; ComponentLink1URL: http://www.ti.com/; ComponentLink2Description: Datasheet; ComponentLink2URL: http://www.ti.com/general/docs/lit/getliterature.tsp?genericPartNumber=TPS61062&fileType=pdf; ComponentLink3Description: Package Specification; ComponentLink3URL: http://www.ti.com/litv/pdf/mpds118h
footprint TI-DRB8-1750X1500TP_V (SON, 8-Leads, Body 3x3mm, Pitch 0.65mm, Thermal Pad 1.50 x 3.8mm)
pins: 1 GND (power) "Analog ground", 2 EN (in) "Enable pin. This pin needs to be pulled high to enable the device. To allow brightness control of the LEDs, a PWM signal up to 1 kHz can be applied. This pin has an internal pulldown resistor.", 3 ILED (in) "Digital brightness control input. When this pin is grounded, the digital brightness control is disabled. When this pin is connected to high, then the feedback voltage is reduced to typically 250 mV and the digital brightness (See Datasheet)", 4 FB (in) "This is the feedback pin of the device. The feedback pin regulates the LED current through the sense resistor by regulating the voltage across Rs. The feedback voltage is set by the ILED pin.ILED=GND sets the feedback (See Datasheet)", 5 PGND (power) "Power ground", 6 SW (power) "Switch pin of the device", 7 OUT (hiz) "Output of the device", 8 VIN (power) "Input supply pin of the device", 9 EP (power) "The PowerPAD (exposed thermal diepad) is only available on the DRB package. The PowerPAD needs to be connected and soldered to analog ground (GND)."

## TPS61062DRBRG4
designator U?
24 V, 400 mA Switch, 1 MHz Boost Converter with Brightness Control for White LED Power Supplies, 2.7 to 6 V, -40 to 85 degC, 8-pin SON (DRB8), Green (RoHS & no Sb/Br); Manufacturer: Texas Instruments; PartNumber: TPS61062DRBRG4; Dimming: TRUE; Iout(Max)(A): 0.06; Iq(Typ)(mA): 1; Rating: Catalog; SubFamily: White LED Driver; Switching Frequency(Max)(kHz): 1200; Vin(Max)(V): 6; Vin(Min)(V): 2.7; DatasheetVersion: SLVS538A; PackageVersion: 4203482-2/K; PackageReference: DRB8-1750X1500TP; PackageDescription: 8-Pin Plastic Small Outline, Body 3 x 3 mm, Pitch 0.65 mm; Supplier 1: Digi-Key; Supplier Part Number 1: TPS61062DRBRG4-ND; Supplier 2: Newark; Supplier Part Number 2: 24K6026; Supplier 3: Mouser; Supplier Part Number 3: 595-TPS61062DRBRG4; Eco-Plan: Green (RoHS & no Sb/Br); Topology: Boost; Mounting Technology: Surface Mount; ComponentLink1Description: Manufacturer URL; ComponentLink1URL: http://www.ti.com/; ComponentLink2Description: Datasheet; ComponentLink2URL: http://www.ti.com/general/docs/lit/getliterature.tsp?genericPartNumber=TPS61062&fileType=pdf; ComponentLink3Description: Package Specification; ComponentLink3URL: http://www.ti.com/litv/pdf/mpds118h
footprint TI-DRB8-1750X1500TP_V (SON, 8-Leads, Body 3x3mm, Pitch 0.65mm, Thermal Pad 1.50 x 3.8mm)
pins: 1 GND (power) "Analog ground", 2 EN (in) "Enable pin. This pin needs to be pulled high to enable the device. To allow brightness control of the LEDs, a PWM signal up to 1 kHz can be applied. This pin has an internal pulldown resistor.", 3 ILED (in) "Digital brightness control input. When this pin is grounded, the digital brightness control is disabled. When this pin is connected to high, then the feedback voltage is reduced to typically 250 mV and the digital brightness (See Datasheet)", 4 FB (in) "This is the feedback pin of the device. The feedback pin regulates the LED current through the sense resistor by regulating the voltage across Rs. The feedback voltage is set by the ILED pin.ILED=GND sets the feedback (See Datasheet)", 5 PGND (power) "Power ground", 6 SW (power) "Switch pin of the device", 7 OUT (hiz) "Output of the device", 8 VIN (power) "Input supply pin of the device", 9 EP (power) "The PowerPAD (exposed thermal diepad) is only available on the DRB package. The PowerPAD needs to be connected and soldered to analog ground (GND)."

## TPS61062YZFR
designator U?
24 V, 400 mA Switch, 1 MHz Boost Converter with Brightness Control for White LED Power Supplies, 2.7 to 6 V, -40 to 85 degC, 8-pin BGA (YZF8), Green (RoHS & no Sb/Br); Manufacturer: Texas Instruments; PartNumber: TPS61062YZFR; Dimming: TRUE; Iout(Max)(A): 0.06; Iq(Typ)(mA): 1; Rating: Catalog; SubFamily: White LED Driver; Switching Frequency(Max)(kHz): 1200; Vin(Max)(V): 6; Vin(Min)(V): 2.7; DatasheetVersion: SLVS538A; PackageVersion: 4205058-3/M; PackageReference: YZF8; PackageDescription: 8-Ball, Silicon Grid Array, Body Size 1.46 x 1.46 mm, Pitch 0.5 mm; Supplier 1: Digi-Key; Supplier Part Number 1: TPS61062YZFR-ND; Supplier 2: Mouser; Supplier Part Number 2: 595-TPS61062YZFR; Eco-Plan: Green (RoHS & no Sb/Br); Topology: Boost; Mounting Technology: Surface Mount; ComponentLink1Description: Manufacturer URL; ComponentLink1URL: http://www.ti.com/; ComponentLink2Description: Datasheet; ComponentLink2URL: http://www.ti.com/general/docs/lit/getliterature.tsp?genericPartNumber=TPS61062&fileType=pdf; ComponentLink3Description: Package Specification; ComponentLink3URL: http://www.ti.com/lit/ds/symlink/tps61060.pdf
footprint TI-YZF8-1460X1460DE (BGA, 8-Balls, Body 1.46x1.46mm, Pitch 0.5mm)
pins: A1 GND (power) "Analog ground", A2 EN (in) "Enable pin. This pin needs to be pulled high to enable the device. To allow brightness control of the LEDs, a PWM signal up to 1 kHz can be applied. This pin has an internal pulldown resistor.", A3 ILED (in) "Digital brightness control input. When this pin is grounded, the digital brightness control is disabled. When this pin is connected to high, then the feedback voltage is reduced to typically 250 mV and the digital brightness (See Datasheet)", B1 VIN (power) "Input supply pin of the device", B3 FB (in) "This is the feedback pin of the device. The feedback pin regulates the LED current through the sense resistor by regulating the voltage across Rs. The feedback voltage is set by the ILED pin. ILED=GND sets the feedback (See Datasheet)", C1 OUT (hiz) "Output of the device", C2 SW (power) "Switch pin of the device", C3 PGND (power) "Power ground"

## TPS61062YZFT
designator U?
24 V, 400 mA Switch, 1 MHz Boost Converter with Brightness Control for White LED Power Supplies, 2.7 to 6 V, -40 to 85 degC, 8-pin BGA (YZF8), Green (RoHS & no Sb/Br); Manufacturer: Texas Instruments; PartNumber: TPS61062YZFT; Dimming: TRUE; Iout(Max)(A): 0.06; Iq(Typ)(mA): 1; Rating: Catalog; SubFamily: White LED Driver; Switching Frequency(Max)(kHz): 1200; Vin(Max)(V): 6; Vin(Min)(V): 2.7; DatasheetVersion: SLVS538A; PackageVersion: 4205058-3/M; PackageReference: YZF8; PackageDescription: 8-Ball, Silicon Grid Array, Body Size 1.46 x 1.46 mm, Pitch 0.5 mm; Supplier 1: Digi-Key; Supplier Part Number 1: 296-17747-2-ND; Supplier 2: Digi-Key; Supplier Part Number 2: 296-17747-1-ND; Supplier 3: Digi-Key; Supplier Part Number 3: 296-17747-6-ND; Supplier 4: Farnell; Supplier Part Number 4: 1755588RL; Supplier 5: Farnell; Supplier Part Number 5: 1755588; Supplier 6: Newark; Supplier Part Number 6: 65J6915; Supplier 7: Mouser; Supplier Part Number 7: 595-TPS61062YZFT; Eco-Plan: Green (RoHS & no Sb/Br); Topology: Boost; Mounting Technology: Surface Mount; ComponentLink1Description: Manufacturer URL; ComponentLink1URL: http://www.ti.com/; ComponentLink2Description: Datasheet; ComponentLink2URL: http://www.ti.com/general/docs/lit/getliterature.tsp?genericPartNumber=TPS61062&fileType=pdf; ComponentLink3Description: Package Specification; ComponentLink3URL: http://www.ti.com/lit/ds/symlink/tps61060.pdf
footprint TI-YZF8-1460X1460DE (BGA, 8-Balls, Body 1.46x1.46mm, Pitch 0.5mm)
pins: A1 GND (power) "Analog ground", A2 EN (in) "Enable pin. This pin needs to be pulled high to enable the device. To allow brightness control of the LEDs, a PWM signal up to 1 kHz can be applied. This pin has an internal pulldown resistor.", A3 ILED (in) "Digital brightness control input. When this pin is grounded, the digital brightness control is disabled. When this pin is connected to high, then the feedback voltage is reduced to typically 250 mV and the digital brightness (See Datasheet)", B1 VIN (power) "Input supply pin of the device", B3 FB (in) "This is the feedback pin of the device. The feedback pin regulates the LED current through the sense resistor by regulating the voltage across Rs. The feedback voltage is set by the ILED pin. ILED=GND sets the feedback (See Datasheet)", C1 OUT (hiz) "Output of the device", C2 SW (power) "Switch pin of the device", C3 PGND (power) "Power ground"

## TPS61080DRCR
designator U?
27 V, 500 mA Switch, 1.2 MHz Boost Converter with Integrated Power Diode, 2.5 to 6 V, -40 to 85 degC, 10-pin SON (DRC10), Green (RoHS & no Sb/Br); Manufacturer: Texas Instruments; PartNumber: TPS61080DRCR; Iout(Max)(A): 0.2; Iq(Typ)(mA): 6; Rating: Catalog; SubFamily: White LED Driver; Switching Frequency(Max)(kHz): 1200; Synchronous Rectification: TRUE; Vin(Min)(V): 2.5; DatasheetVersion: SLVS644C; PackageVersion: 4204102-3/L; PackageReference: DRC10-2400X1650TP; PackageDescription: 10-Pin Plastic Small Outline, Body 3 x 3 mm, Pitch 0.5 mm; Supplier 1: Digi-Key; Supplier Part Number 1: 296-27010-2-ND; Supplier 2: Digi-Key; Supplier Part Number 2: 296-27010-1-ND; Supplier 3: Digi-Key; Supplier Part Number 3: 296-27010-6-ND; Supplier 4: Newark; Supplier Part Number 4: 30M1830; Supplier 5: Mouser; Supplier Part Number 5: 595-TPS61080DRCR; Eco-Plan: Green (RoHS & no Sb/Br); Topology: Boost; Vin(Max)(V): 6; Mounting Technology: Surface Mount; ComponentLink1Description: Manufacturer URL; ComponentLink1URL: http://www.ti.com/; ComponentLink2Description: Datasheet; ComponentLink2URL: http://www.ti.com/general/docs/lit/getliterature.tsp?genericPartNumber=TPS61080&fileType=pdf; ComponentLink3Description: Package Specification; ComponentLink3URL: http://www.ti.com/litv/pdf/mpds117k
footprint TI-DRC10-2400X1650TP_V (SON, 10-Leads, Body 3x3mm, Pitch 0.5mm, Thermal Pad 3x1.65mm)
pins: 1 L (power) "The inductor is connected between this pin and the SW pin. This pin connects to the source of the isolation FET as well. Minimize trace area at this pin to reduce EMI.", 2 VIN (power) "Input pin to the IC. It is the input to the boost regulator, and also powers the IC circuit. It is connected tothe drain of the isolation FET as well.", 3 SS (in) "Soft start programming pin. A capacitor between the SS pin and GND pin programs soft start timing.", 4 GND (power) "Signal ground of the IC", 5 FB (in) "Voltage feedback pin for the output regulation. It is regulated to an internal reference voltage. An external voltage divider from the output to GND with the center tap connected to this pin programs the regulated voltage. (See Datasheet)", 6 EN (in) "Enable pin. When the voltage of this pin falls below enable threshold for more than 74ms, the IC turns off and consumes less than 2 uA current.", 7 FSW (in) "Switching frequency selection pin. Logic high on the pin selects 1.2MHz, while logic low reduces the frequency to 600KHz for better light load efficiency.", 8 PGND (power) "Power ground of the IC. It is connected to the source of the PWM switch. This pin should be made very close to the output capacitor in layout.", 9 OUT (power) "Output of the boost regulator. When the output voltage exceeds the 27V overvoltage protection (OVP) threshold, the PWM switch turns off until Vout drops 0.7V below the overvoltage threshold.", 10 SW (power) "Switching node of the IC. Connect the inductor between this pin and the L pin.", 11 EP (power) "The thermal pad should be soldered to the analog ground. If possible, use thermal via to connect to ground plane for ideal power dissipation."